# Altium schematic symbol library Schlib1.SchLib: 15 symbols
Pins are listed as number, name and electrical type; pins without a type are passive.

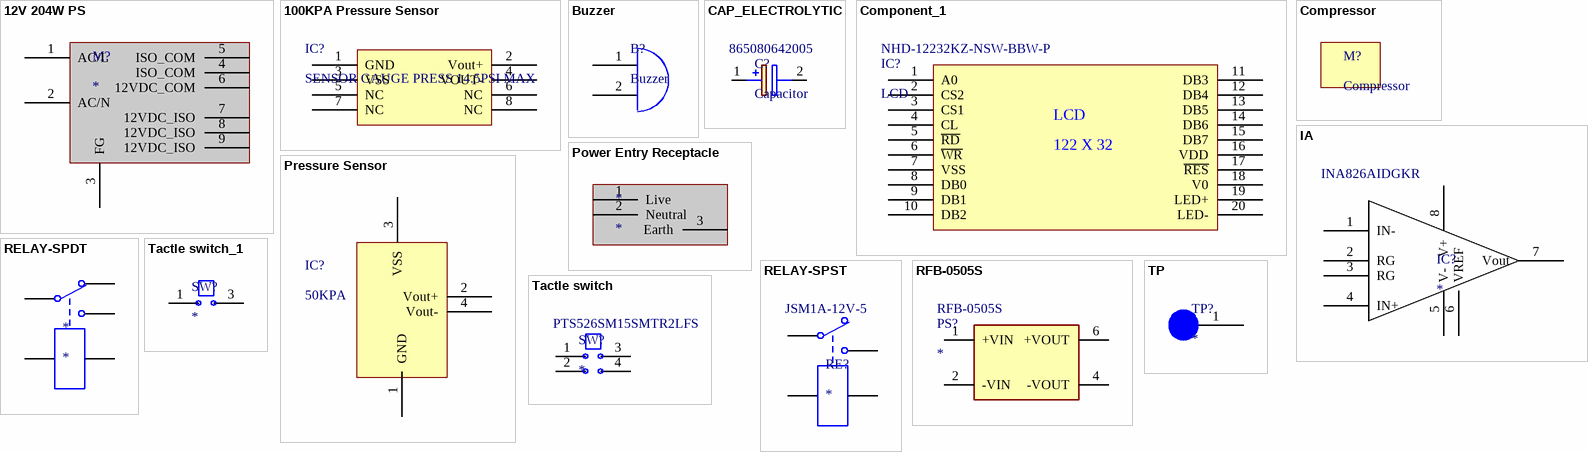
[diagram p0: symbols 12V 204W PS to TP]

## 12V 204W PS
designator M?  (mechanical)
pins: 1 AC/L, 2 AC/N, 3 FG, 4 ISO_COM, 5 ISO_COM, 6 12VDC_COM, 7 12VDC_ISO, 8 12VDC_ISO, 9 12VDC_ISO

## 100KPA Pressure Sensor
designator IC?, comment SENSOR GAUGE PRESS 14.5PSI MAX
Manufacturer 1: NXP Freescale; Manufacturer Part Number 1: MPXV2102GP; Description 1: Pressure Sensor 14.5 PSI (100 kPa) Vented Gauge Male - 0.13" (3.17mm) Tube 0 mV ~ 40 mV (10V) 8-SMD Module; Operating Supply Voltage: 10V; Max Supply Voltage: 16V; Nominal Supply Current: 6mA; Port Style: Barbed; Max Pressure: 58.02PSI; Accuracy: 0.5%; Output Voltage: 40mV; Output Type: Wheatstone Bridge; Pressure Type: Vented Gauge; Supplier 1: Digi-Key; Supplier Part Number 1: MPXV2102GP-ND; RoHS 1: Yes; Stock 1: 406; Pricing 1: 1 = 13.86000, 5 = 13.57400, 10 = 11.31200, 25 = 10.46360, 50 = 10.18080, 100 = 8.76680, 500 = 8.20120, 1000 = 7.77700, 5000 = 7.21140 (USD); Mount: Surface Mount; Case/Package: SOP; Number of Pins: 8; Weight: 0.061909oz; Min Operating Temperature: -40°C; Max Operating Temperature: 125°C; Packaging: Tray; Package Quantity: 125; Operating Pressure: 14.5PSI; Termination: PCB; Voltage Rating (DC): 10V; Lead Free: Lead Free; Halogen Free: Halogen Free; ComponentLink1URL: https://datasheet.ciiva.com/3272/mpx2102-3272661.pdf?src-supplier=Avnet; ComponentLink1Description: https://datasheet.ciiva.com/3272/mpx2102-3272661.pdf?src-supplier=Avnet; ComponentLink2URL: https://datasheet.ciiva.com/26022/mpx2102-26022587.pdf?src-supplier=Avnet+Europe; ComponentLink2Description: https://datasheet.ciiva.com/26022/mpx2102-26022587.pdf?src-supplier=Avnet+Europe; ComponentLink3URL: https://datasheet.ciiva.com/2843/mpx2102-2843513.pdf?src-supplier=Digi-Key; ComponentLink3Description: https://datasheet.ciiva.com/2843/mpx2102-2843513.pdf?src-supplier=Digi-Key
footprint SOP127P600-8N
pins: 1 GND, 2 Vout+, 3 VSS, 4 VOUT-, 5 NC, 6 NC, 7 NC, 8 NC

## Buzzer
designator B?
BUZZER, 16.5 MM, 6.7 MM DEEP, P,; Manufacturer 1: CUI; Manufacturer Part Number 1: CPT-1667-85T; Supplier 1: Digi-Key; Supplier Part Number 1: 102-CPT-1667-85T-ND; RoHS 1: No; Stock 1: 494; Pricing 1: 1 = 0.82000, 10 = 0.68400, 25 = 0.63360, 50 = 0.59680, 100 = 0.56130, 500 = 0.48384, 1000 = 0.45266, 5000 = 0.42900 (USD)
footprint Buzzer
pins: 1, 2

## CAP_ELECTROLYTIC
designator C?, comment Capacitor  Manufacturer Part Number 1: 865080642005
CAP 6.8 UF 20% 50 V; Manufacturer 1: Wurth Electronics; Material: Aluminium; Capacitance: 6.8uF; Voltage Rating: 50V; Polarity: Polar; Ripple Current: 75mA; Impedance: 3.8R; Life (Hours): 2000Hour; Supplier 1: Digi-Key; Supplier Part Number 1: 732-8450-1-ND; RoHS 1: Yes; Description 1: CAP 6.8 UF 20% 50 V; Stock 1: 76; Pricing 1: 1 = 0.20000, 50 = 0.17000, 100 = 0.14800, 250 = 0.13200, 500 = 0.11500 (USD); Mount: Surface Mount; Case/Package: Radial; Min Operating Temperature: -55°C; Max Operating Temperature: 105°C; Tolerance: 20%; Package Quantity: 1000; Packaging: Cut Tape; Ripple Current (AC): 75mA; Voltage Rating (DC): 50V; Diameter: 5mm; Height: 5.5mm; Height - Seated (Max): 0.217inch; REACH SVHC: Unknown; ComponentLink1URL: https://datasheet.ciiva.com/48693/001280473-da-01-en-wcap-asli-alu-elec-caps-865080642005-48693548.pdf?src-supplier=Conrad; ComponentLink1Description: https://datasheet.ciiva.com/48693/001280473-da-01-en-wcap-asli-alu-elec-caps-865080642005-48693548.pdf?src-supplier=Conrad
footprint CAPAE430X550N
pins: 1 +, 2 -

## Component_1
designator IC?, comment LCD  Manufacturer Part Number 1: NHD-12232KZ-NSW-BBW-P
LCD MOD GRAPH 122X32 WH TRANSM; Manufacturer 1: Newhaven Display; Description 1: 122 by 32 Character LCD Display Module 5 Volts White Letters; Interface: Parallel,8 bit; Background Color: Blue; Resolution (height): 32pixel; Resolution (width): 122pixel; Backlight Type: LED; Supplier 1: Digi-Key; Supplier Part Number 1: NHD-12232KZ-NSW-BBW-P-ND; RoHS 1: Yes; Stock 1: 610; Pricing 1: 1 = 13.85000, 5 = 13.01800, 10 = 12.18700, 50 = 11.60400 (USD); Case/Package: Module; Min Operating Temperature: -20°C; Max Operating Temperature: 70°C; Packaging: Bulk; Package Quantity: 50; ComponentLink1URL: https://datasheet.ciiva.com/19454/2154919-19454139.pdf?src-supplier=Jameco; ComponentLink1Description: https://datasheet.ciiva.com/19454/2154919-19454139.pdf?src-supplier=Jameco; ComponentLink2URL: https://datasheet.ciiva.com/5326/nhd-12232kz-nsw-bbw-p-44813-5326535.pdf?src-supplier=Mouser; ComponentLink2Description: https://datasheet.ciiva.com/5326/nhd-12232kz-nsw-bbw-p-44813-5326535.pdf?src-supplier=Mouser; ComponentLink3URL: https://datasheet.ciiva.com/2103/nhd-12232kz-nsw-bbw-p-2103129.pdf?src-supplier=Digi-Key; ComponentLink3Description: https://datasheet.ciiva.com/2103/nhd-12232kz-nsw-bbw-p-2103129.pdf?src-supplier=Digi-Key; ComponentLink4URL: https://datasheet.ciiva.com/49271/70518174-49271942.pdf?src-supplier=Allied+Electronics; ComponentLink4Description: https://datasheet.ciiva.com/49271/70518174-49271942.pdf?src-supplier=Allied+Electronics
footprint DIP20
pins: 1 A0, 2 CS2, 3 CS1, 4 CL, 5 ~{RD}, 6 ~{WR}, 7 VSS, 8 DB0, 9 DB1, 10 DB2, 11 DB3, 12 DB4, 13 DB5, 14 DB6, 15 DB7, 16 VDD, 17 ~{RES}, 18 V0, 19 LED+, 20 LED-
text: 122 X 32

## Compressor
designator M?
15A 60PSI Compressor; Manufacturer_Part_Number: 4251K71

## IA
designator IC?  Manufacturer Part Number 1: INA826AIDGKR
IC INST AMP 1 CIRCUIT 8VSSOP; Manufacturer 1: Texas Instruments; Description 1: TEXAS INSTRUMENTS - INA826AIDGKR - ?????, 1????, 40 µV, 1 V/µs, 1 MHz, 2.7V ? 36V, ± 1.35V ? ± 18V, VSSOP; Common Mode Rejection Ratio: 84dB; Number of Channels: 1; Max Supply Voltage: 36V; Min Supply Voltage: 2.7V; Quiescent Current: 200uA; Input Bias Current: 65nA; Input Offset Voltage (Vos): 150uV; Input Voltage Noise Density: 18nV/sqrt Hz; Output Current per Channel: 16mA; Power Supply Rejection Ratio (PSRR): 100dB; Voltage Gain: 60dB; Input Resistance: 100kR; Slew Rate: 1V/µs; -3db Bandwidth: 1MHz; Min Dual Supply Voltage: 1.35V; Max Dual Supply Voltage: 18V; Supplier 1: Digi-Key; Supplier Part Number 1: 296-29663-1-ND; RoHS 1: Yes; Stock 1: 17777; Pricing 1: 1 = 2.73000, 10 = 2.44900, 25 = 2.31000, 100 = 1.84800, 250 = 1.61700, 500 = 1.57080, 1000 = 1.24740 (USD); Case/Package: VSSOP; Number of Pins: 8; Weight: 0.000935oz; Contact Plating: Gold; Min Operating Temperature: -40°C; Max Operating Temperature: 125°C; Operating Supply Current: 200uA; Number of Circuits: 1; Number of Elements: 1; Number of Amplifiers: 1; Packaging: Tape and Reel; Bandwidth: 1MHz; Package Quantity: 2500; Radiation Hardening: No; REACH SVHC: No SVHC; Lead Free: Lead Free; ComponentLink1URL: https://datasheet.ciiva.com/1487/1806064-1487618.pdf?src-supplier=Element14; ComponentLink1Description: https://datasheet.ciiva.com/1487/1806064-1487618.pdf?src-supplier=Element14; ComponentLink2URL: https://datasheet.ciiva.com/1798/ina826-1798294.pdf?src-supplier=Digi-Key; ComponentLink2Description: https://datasheet.ciiva.com/1798/ina826-1798294.pdf?src-supplier=Digi-Key; ComponentLink3URL: https://datasheet.ciiva.com/1798/ina826-1798295.pdf?src-supplier=Digi-Key; ComponentLink3Description: https://datasheet.ciiva.com/1798/ina826-1798295.pdf?src-supplier=Digi-Key; ComponentLink4URL: https://datasheet.ciiva.com/1798/ina826-1798296.pdf?src-supplier=Digi-Key; ComponentLink4Description: https://datasheet.ciiva.com/1798/ina826-1798296.pdf?src-supplier=Digi-Key; ComponentLink5URL: https://datasheet.ciiva.com/14338/ina826-14338024.pdf?src-supplier=Avnet; ComponentLink5Description: https://datasheet.ciiva.com/14338/ina826-14338024.pdf?src-supplier=Avnet
footprint SOP65P490X110-8N
pins: 1 IN-, 2 RG, 3 RG, 4 IN+, 5 V-, 6 VREF, 7 Vout, 8 V+

## Power Entry Receptacle
designator *  (mechanical)
Manufacturer 1: Schaffner; Manufacturer Part Number 1: FN9222B-1-06; Description 1: PWR ENT RCPT IEC320-C14 PANEL QC; Number of Contacts: 3; Max Voltage Rating (AC): 250V; Gender: Male; Connector Type: Receptacle; Number of Ports: 1; Inductance: 12mH; Resistance: 1MR; Current: 1A; Frequency: 400Hz; Capacitance: 100nF; Fuse: No; Ratings: IP40; Approvals: UL,CSA,ENEC,CQC,VDE; Supplier 1: Digi-Key; Supplier Part Number 1: 817-1428-ND; RoHS 1: Yes; Stock 1: 242; Pricing 1: 1 = 5.75000, 10 = 5.52000, 25 = 5.06000, 50 = 4.83000, 100 = 4.60000, 250 = 4.02500, 500 = 3.91000, 1000 = 3.33500, 2500 = 3.10500 (USD); Mount: Panel,Flanges,Screw; Case/Package: Module; Min Operating Temperature: -25°C; Max Operating Temperature: 85°C; Termination: Solder; Orientation: Straight; Number of Poles: 3; Packaging: Bulk; Number of Positions: 3; Voltage Rating: 250V; Max Current Rating: 1A; Voltage Rating (AC): 250V; Current Rating: 1A; Package Quantity: 60; Height: 48mm; Width: 22.5mm; Depth: 43.9mm; Radiation Hardening: No; REACH SVHC: No SVHC; Flammability Rating: UL94 V-2; ComponentLink1URL: https://datasheet.ciiva.com/14563/70027175-14563477.pdf?src-supplier=Allied+Electronics; ComponentLink1Description: https://datasheet.ciiva.com/14563/70027175-14563477.pdf?src-supplier=Allied+Electronics; ComponentLink2URL: https://datasheet.ciiva.com/4582/-4582696.pdf?src-supplier=Mouser; ComponentLink2Description: https://datasheet.ciiva.com/4582/-4582696.pdf?src-supplier=Mouser; ComponentLink3URL: https://datasheet.ciiva.com/30243/138index-phpid329l0w4-productsproduct70chash7322c530e83bcf7af0b2e347-30243243.pdf?src-supplier=Onlinecomponents.com; ComponentLink3Description: https://datasheet.ciiva.com/30243/138index-phpid329l0w4-productsproduct70chash7322c530e83bcf7af0b2e347-30243243.pdf?src-supplier=Onlinecomponents.com; ComponentLink4URL: https://datasheet.ciiva.com/46431/1851815-46431020.pdf?src-supplier=Element14; ComponentLink4Description: https://datasheet.ciiva.com/46431/1851815-46431020.pdf?src-supplier=Element14; ComponentLink5URL: https://datasheet.ciiva.com/1019/fn+9222-1019406.pdf?src-supplier=Digi-Key; ComponentLink5Description: https://datasheet.ciiva.com/1019/fn+9222-1019406.pdf?src-supplier=Digi-Key
pins: 1 Live, 2 Neutral, 3 Earth

## Pressure Sensor
designator IC?, comment 50KPA
SENS PRESSURE 7.25 PSI MAX MPAK; Manufacturer 1: NXP Freescale; Manufacturer Part Number 1: MPXM2053GST1; Description 1: Pressure Sensor 0V to 0.04V 0kPa to 50kPa Absolute Automotive 5-Pin(4+Tab) M-PAC T/R; Output Type: Wheatstone Bridge; Pressure Type: Vented Gauge; Operating Supply Voltage: 10V; Max Supply Voltage: 16V; Nominal Supply Current: 6mA; Output Voltage: 40mV; Accuracy: 0.4%; Port Style: Barbless; Max Pressure: 29.01PSI; Supplier 1: Digi-Key; Supplier Part Number 1: 568-13748-1-ND; RoHS 1: Yes; Stock 1: 1331; Pricing 1: 1 = 11.78000, 5 = 10.33200, 10 = 9.29900, 25 = 8.26600, 50 = 7.64600, 100 = 6.61270 (USD); Mount: Surface Mount; Case/Package: SMD/SMT; Weight: 0.018618oz; Min Operating Temperature: -40°C; Max Operating Temperature: 125°C; Packaging: Tape and Reel; Package Quantity: 400; Operating Pressure: 7.25PSI; Termination: PCB; Lead Free: Lead Free; Halogen Free: Halogen Free; ComponentLink1URL: https://datasheet.ciiva.com/3272/mpx2053-3272653.pdf?src-supplier=Avnet; ComponentLink1Description: https://datasheet.ciiva.com/3272/mpx2053-3272653.pdf?src-supplier=Avnet; ComponentLink2URL: https://datasheet.ciiva.com/2843/mpx2053-2843368.pdf?src-supplier=Digi-Key; ComponentLink2Description: https://datasheet.ciiva.com/2843/mpx2053-2843368.pdf?src-supplier=Digi-Key; ComponentLink3URL: https://datasheet.ciiva.com/16463/mpx2053-16463915.pdf?src-supplier=Future+Electronics; ComponentLink3Description: https://datasheet.ciiva.com/16463/mpx2053-16463915.pdf?src-supplier=Future+Electronics
footprint DPAK127P1219X1008-5N (TO, 5-Pads, Body 7.84x7.08mm (max), IPC Medium Density)
pins: 1 GND, 2 Vout+, 3 VSS, 4 Vout-

## RELAY-SPDT
designator *
footprint T9GV5L145
pins: 1, 2, 3, 4, 5

## RELAY-SPST
designator RE?  Manufacturer Part Number 1: JSM1A-12V-5
Manufacturer 1: Panasonic; Description 1: RELAY AUTOMOTIVE SPST 15A 12V; Max Voltage Rating (DC): 16V; Max Current Rating: 15A; Power Consumption: 640mW; Coil Current: 53.3mA; Throw Configuration: SPST; Operate Time: 10ms; Relay Type: Automotive; Coil Resistance: 225R; Coil Type: Non-Latching; Coil Voltage (DC): 12V; Supplier 1: Digi-Key; Supplier Part Number 1: 255-2815-ND; RoHS 1: Yes; Stock 1: 2893; Pricing 1: 1 = 1.75000, 10 = 1.64300, 25 = 1.46000, 50 = 1.38700, 100 = 1.31400, 250 = 1.16800, 500 = 1.09500, 1000 = 1.02200, 5000 = 0.98550 (USD); Mount: Through Hole; Number of Pins: 4; Weight: 12g; Contact Material: Silver,Cadmium; Min Operating Temperature: -40°C; Max Operating Temperature: 85°C; Package Quantity: 100; Packaging: Bulk; Contact Current Rating: 15A; Release Time: 10ms; Termination: PC Pin; Coil Power: 640mW; Lead Free: Lead Free; ComponentLink1URL: https://datasheet.ciiva.com/2408/ds-61211-en-jsm-pd-2408039.pdf?src-supplier=Digi-Key; ComponentLink1Description: https://datasheet.ciiva.com/2408/ds-61211-en-jsm-pd-2408039.pdf?src-supplier=Digi-Key
footprint JSM1A12V4
pins: 1, 2, 3, 5

## RFB-0505S
designator PS?  Manufacturer Part Number 1: RFB-0505S
DC DC CONVERTER 5V 1W; Manufacturer_Name: RECOM Power; Manufacturer 1: Recom; Description 1: Recom RFB 1W Isolated DC-DC Converter Through Hole, Voltage out 5V dc; Number of Outputs: 1; Max Output Current: 200mA; Isolation Voltage: 1kV; Efficiency: 80%; Datasheet Link: https://componentsearchengine.com/Datasheets/1/RFB-0505S.pdf; Height: 10.7mm; Manufacturer_Part_Number: RFB-0505S; Mouser Part Number: 919-RFB-0505S; Mouser Price/Stock: https://www.mouser.com/Search/Refine.aspx?Keyword=919-RFB-0505S; RS Part Number: 1855539P; RS Price/Stock: http://uk.rs-online.com/web/p/products/1855539P; Supplier 1: Digi-Key; Supplier Part Number 1: 945-3158-ND; RoHS 1: No; Stock 1: 1808; Pricing 1: 1 = 1.54000, 5 = 1.51800, 10 = 1.49600, 25 = 1.45200, 50 = 1.40800, 100 = 1.36400, 250 = 1.32000, 500 = 1.23200 (USD); Mount: Through Hole; Weight: 2.2g; Min Operating Temperature: -40°C; Max Operating Temperature: 85°C; Max Output Voltage: 5V; Packaging: Rail/Tube; Max Input Voltage: 5V; Max Power Dissipation: 1W; Features: SCP; Voltage - Output 1: 5V; Length: 19.6mm; Width: 6mm; ComponentLink1URL: https://www.recom-power.com/pdf/Econoline/RFB.pdf?src-supplier=Digi-Key; ComponentLink1Description: https://www.recom-power.com/pdf/Econoline/RFB.pdf?src-supplier=Digi-Key
footprint RFB0505S
pins: 1 +VIN, 2 -VIN, 4 -VOUT, 6 +VOUT

## Tactle switch
designator SW?  Manufacturer Part Number 1: PTS526SM15SMTR2LFS
Manufacturer 1: ITT C&K; Supplier 1: Digi-Key; Supplier Part Number 1: CKN12220-1-ND; RoHS 1: No; Stock 1: 5684; Pricing 1: 1 = 0.10000, 10 = 0.08500, 25 = 0.08240, 50 = 0.07940, 100 = 0.07500, 250 = 0.07064, 500 = 0.06768, 1000 = 0.05149 (USD)
footprint PTS526SM15SMTR2LFS
pins: 1, 2, 3, 4

## Tactle switch_1
designator SW?
SWITCH TACT SPST-NO 0.025A 50V; Manufacturer 1: E-Switch; Manufacturer Part Number 1: 320E11BLK; Description 1: Switch Tactile N.O. SPST Square Button PC Pins 0.025A 50VDC 1.32N Thru-Hole; Mechanical Life: 1000000Cycles; Actuator Material: PC,Polycarbonate; Illumination Type: Non-Illuminated; Throw Configuration: SPST; Contact Resistance: 50mR; Operating Force: 135gf; Current Rating: 25mA; Switch Function: Off-Mom; Switch Travel: 0.6mm; Actuator Length: 2.55mm; Supplier 1: Digi-Key; Supplier Part Number 1: EG1301-ND; RoHS 1: Yes; Stock 1: 1989; Pricing 1: 1 = 1.43000, 10 = 1.33800, 25 = 1.27400, 50 = 1.21040, 100 = 1.17850, 250 = 1.14660, 500 = 1.08290, 1000 = 1.01920, 5000 = 0.85995 (USD); Mount: Through Hole; Contact Material: Copper Alloy,Copper,Silver; Contact Plating: Silver; Housing Material: Nylon; Color: Black; Min Operating Temperature: -20°C; Max Operating Temperature: 70°C; Termination: PC Pin; Voltage Rating (DC): 50V; Electrical Life: 1000000Cycles; Package Quantity: 1; Packaging: Bulk; Orientation: Straight; Max Voltage Rating (DC): 50V; Length: 12.5mm; Width: 12.5mm; Lead Free: Lead Free; ComponentLink1URL: https://datasheet.ciiva.com/16154/xb0016p-16154688.pdf?src-supplier=Onlinecomponents.com; ComponentLink1Description: https://datasheet.ciiva.com/16154/xb0016p-16154688.pdf?src-supplier=Onlinecomponents.com
footprint 32001E11BLK
pins: 1, 3

## TP
designator TP?
Test Point
footprint TP
pins: 1